# Altium footprint library CAP_SMD.PcbLib: 70 footprints (part 4 of 5)
Each footprint in its own frame and in the unit in brackets; x right, y up, seen from the top. Pads: shape width x height; smd on the part's side, far side on the other; paste and mask are expansions set on the pad; w line width, h text height; cw(c..) or ccw(c..) is an arc to the next point about the centre after c.
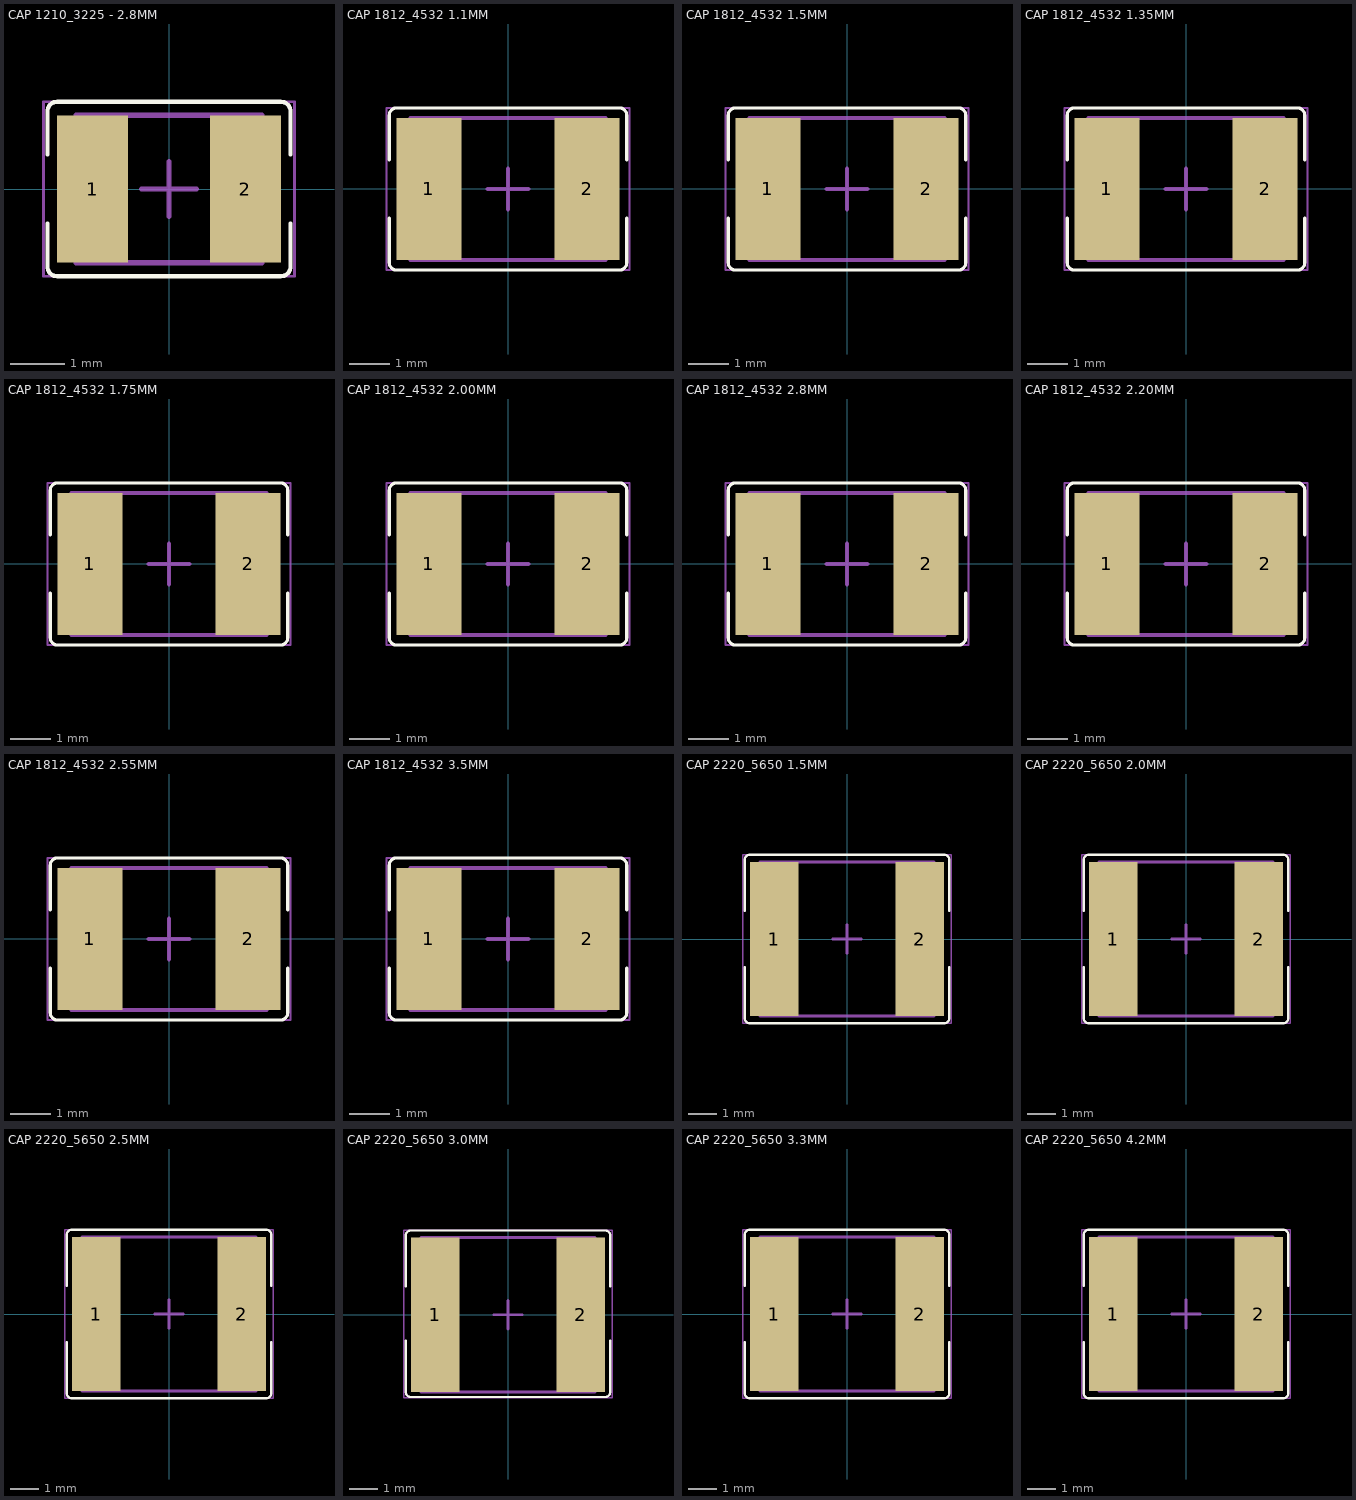
[diagram p3: the footprints below, top view; thin cyan lines are the x and y axes]

## CAP 1210_3225 - 2.8MM [mm] "Chip Capacitor, 2-Leads, Body 3.20x2.50mm, IPC Medium Density"
height 2.8
pads (2):
  rect 1.3x2.7 smd: 1(-1.4,0) 2(1.4,0)
Top Overlay:
  lines w0.076: -2.23,-0.635 -2.23,-1.42 ccw(c-2.05,-1.42) -2.05,-1.6 2.05,-1.6 ccw(c2.05,-1.42) 2.23,-1.42 2.23,-0.635 ; -2.23,0.635 -2.23,1.42 cw(c-2.05,1.42) -2.05,1.6 2.05,1.6 cw(c2.05,1.42) 2.23,1.42 2.23,0.635
Mechanical 13:
  lines w0.1: -1.7,-1.35 1.7,-1.35 1.7,1.35 -1.7,1.35 -1.7,-1.35
Mechanical 15:
  lines w0.05: -2.3,-1.6 2.3,-1.6 2.3,1.6 -2.3,1.6 -2.3,-1.6
  lines w0.1: -0.5,0 0.5,0 ; 0,-0.5 0,0.5
3D body "CAP 1210-2.8mm.STEP": height 2.8, standoff 0, extent -1.6,-1.25 1.6,1.25

## CAP 1812_4532 1.1MM [mm] "Chip Capacitor, 2-Leads, Body 4.50x3.20mm, IPC Medium Density"
height 1.1
pads (2):
  rect 1.6x3.5 smd: 1(-1.95,0) 2(1.95,0)
Top Overlay:
  lines w0.076: -2.93,-0.714 -2.93,-1.82 ccw(c-2.75,-1.82) -2.75,-2 2.75,-2 ccw(c2.75,-1.82) 2.93,-1.82 2.93,-0.714 ; -2.93,0.714 -2.93,1.82 cw(c-2.75,1.82) -2.75,2 2.75,2 cw(c2.75,1.82) 2.93,1.82 2.93,0.714
Mechanical 13:
  lines w0.1: -2.4,-1.75 -2.4,1.75 2.4,1.75 2.4,-1.75 -2.4,-1.75
Mechanical 15:
  lines w0.05: -3,-2 -3,2 3,2 3,-2 -3,-2
  lines w0.1: -0.5,0 0.5,0 ; 0,-0.5 0,0.5
3D body "CAP 1812-1.1mm.STEP": height 1.1, standoff 0, extent -2.25,-1.6 2.25,1.6

## CAP 1812_4532 1.5MM [mm] "Chip Capacitor, 2-Leads, Body 4.50x3.20mm, IPC Medium Density"
height 1.5
pads (2):
  rect 1.6x3.5 smd: 1(-1.95,0) 2(1.95,0)
Top Overlay:
  lines w0.076: -2.93,-0.714 -2.93,-1.82 ccw(c-2.75,-1.82) -2.75,-2 2.75,-2 ccw(c2.75,-1.82) 2.93,-1.82 2.93,-0.714 ; -2.93,0.714 -2.93,1.82 cw(c-2.75,1.82) -2.75,2 2.75,2 cw(c2.75,1.82) 2.93,1.82 2.93,0.714
Mechanical 13:
  lines w0.1: -2.4,-1.75 2.4,-1.75 2.4,1.75 -2.4,1.75 -2.4,-1.75
Mechanical 15:
  lines w0.05: -3,-2 3,-2 3,2 -3,2 -3,-2
  lines w0.1: -0.5,0 0.5,0 ; 0,-0.5 0,0.5
3D body "CAP 1812-1.5mm.STEP": height 1.5, standoff 0, extent -2.25,-1.6 2.25,1.6

## CAP 1812_4532 1.35MM [mm] "Chip Capacitor, 2-Leads, Body 4.50x3.20mm, IPC Medium Density"
height 1.35
pads (2):
  rect 1.6x3.5 smd: 1(-1.95,0) 2(1.95,0)
Top Overlay:
  lines w0.076: -2.93,-0.714 -2.93,-1.82 ccw(c-2.75,-1.82) -2.75,-2 2.75,-2 ccw(c2.75,-1.82) 2.93,-1.82 2.93,-0.714 ; -2.93,0.714 -2.93,1.82 cw(c-2.75,1.82) -2.75,2 2.75,2 cw(c2.75,1.82) 2.93,1.82 2.93,0.714
Mechanical 13:
  lines w0.1: -2.4,-1.75 -2.4,1.75 2.4,1.75 2.4,-1.75 -2.4,-1.75
Mechanical 15:
  lines w0.05: -3,-2 -3,2 3,2 3,-2 -3,-2
  lines w0.1: -0.5,0 0.5,0 ; 0,-0.5 0,0.5
3D body "CAP 1812-1.35mm.STEP": height 1.35, standoff 0, extent -2.25,-1.6 2.25,1.6

## CAP 1812_4532 1.75MM [mm] "Chip Capacitor, 2-Leads, Body 4.50x3.20mm, IPC Medium Density"
height 1.75
pads (2):
  rect 1.6x3.5 smd: 1(-1.95,0) 2(1.95,0)
Top Overlay:
  lines w0.076: -2.93,-0.714 -2.93,-1.82 ccw(c-2.75,-1.82) -2.75,-2 2.75,-2 ccw(c2.75,-1.82) 2.93,-1.82 2.93,-0.714 ; -2.93,0.714 -2.93,1.82 cw(c-2.75,1.82) -2.75,2 2.75,2 cw(c2.75,1.82) 2.93,1.82 2.93,0.714
Mechanical 13:
  lines w0.1: -2.4,-1.75 2.4,-1.75 2.4,1.75 -2.4,1.75 -2.4,-1.75
Mechanical 15:
  lines w0.05: -3,-2 3,-2 3,2 -3,2 -3,-2
  lines w0.1: -0.5,0 0.5,0 ; 0,-0.5 0,0.5
3D body "CAP 1812-1.75mm.STEP": height 1.75, standoff 0, extent -2.25,-1.6 2.25,1.6

## CAP 1812_4532 2.00MM [mm] "Chip Capacitor, 2-Leads, Body 4.50x3.20mm, IPC Medium Density"
height 2
pads (2):
  rect 1.6x3.5 smd: 1(-1.95,0) 2(1.95,0)
Top Overlay:
  lines w0.076: -2.93,-0.714 -2.93,-1.82 ccw(c-2.75,-1.82) -2.75,-2 2.75,-2 ccw(c2.75,-1.82) 2.93,-1.82 2.93,-0.714 ; -2.93,0.714 -2.93,1.82 cw(c-2.75,1.82) -2.75,2 2.75,2 cw(c2.75,1.82) 2.93,1.82 2.93,0.714
Mechanical 13:
  lines w0.1: -2.4,-1.75 -2.4,1.75 2.4,1.75 2.4,-1.75 -2.4,-1.75
Mechanical 15:
  lines w0.05: -3,-2 -3,2 3,2 3,-2 -3,-2
  lines w0.1: -0.5,0 0.5,0 ; 0,-0.5 0,0.5
3D body "CAP 1812-2.00mm.STEP": height 2, standoff 0, extent -2.25,-1.6 2.25,1.6

## CAP 1812_4532 2.8MM [mm] "Chip Capacitor, 2-Leads, Body 4.50x3.20mm, IPC Medium Density"
height 2.8
pads (2):
  rect 1.6x3.5 smd: 1(-1.95,0) 2(1.95,0)
Top Overlay:
  lines w0.076: -2.93,-0.714 -2.93,-1.82 ccw(c-2.75,-1.82) -2.75,-2 2.75,-2 ccw(c2.75,-1.82) 2.93,-1.82 2.93,-0.714 ; -2.93,0.714 -2.93,1.82 cw(c-2.75,1.82) -2.75,2 2.75,2 cw(c2.75,1.82) 2.93,1.82 2.93,0.714
Mechanical 13:
  lines w0.1: -2.4,-1.75 -2.4,1.75 2.4,1.75 2.4,-1.75 -2.4,-1.75
Mechanical 15:
  lines w0.05: -3,-2 -3,2 3,2 3,-2 -3,-2
  lines w0.1: -0.5,0 0.5,0 ; 0,-0.5 0,0.5
3D body "CAP 1812-2.8mm.STEP": height 2.8, standoff 0, extent -2.25,-1.6 2.25,1.6

## CAP 1812_4532 2.20MM [mm] "Chip Capacitor, 2-Leads, Body 4.50x3.20mm, IPC Medium Density"
height 2.2
pads (2):
  rect 1.6x3.5 smd: 1(-1.95,0) 2(1.95,0)
Top Overlay:
  lines w0.076: -2.93,-0.714 -2.93,-1.82 ccw(c-2.75,-1.82) -2.75,-2 2.75,-2 ccw(c2.75,-1.82) 2.93,-1.82 2.93,-0.714 ; -2.93,0.714 -2.93,1.82 cw(c-2.75,1.82) -2.75,2 2.75,2 cw(c2.75,1.82) 2.93,1.82 2.93,0.714
Mechanical 13:
  lines w0.1: -2.4,-1.75 2.4,-1.75 2.4,1.75 -2.4,1.75 -2.4,-1.75
Mechanical 15:
  lines w0.05: -3,-2 3,-2 3,2 -3,2 -3,-2
  lines w0.1: -0.5,0 0.5,0 ; 0,-0.5 0,0.5
3D body "CAP 1812-2.20mm.STEP": height 2.2, standoff 0, extent -2.25,-1.6 2.25,1.6

## CAP 1812_4532 2.55MM [mm] "Chip Capacitor, 2-Leads, Body 4.50x3.20mm, IPC Medium Density"
height 2.55
pads (2):
  rect 1.6x3.5 smd: 1(-1.95,0) 2(1.95,0)
Top Overlay:
  lines w0.076: -2.93,-0.714 -2.93,-1.82 ccw(c-2.75,-1.82) -2.75,-2 2.75,-2 ccw(c2.75,-1.82) 2.93,-1.82 2.93,-0.714 ; -2.93,0.714 -2.93,1.82 cw(c-2.75,1.82) -2.75,2 2.75,2 cw(c2.75,1.82) 2.93,1.82 2.93,0.714
Mechanical 13:
  lines w0.1: -2.4,-1.75 2.4,-1.75 2.4,1.75 -2.4,1.75 -2.4,-1.75
Mechanical 15:
  lines w0.05: -3,-2 3,-2 3,2 -3,2 -3,-2
  lines w0.1: -0.5,0 0.5,0 ; 0,-0.5 0,0.5
3D body "CAP 1812-2.55mm.STEP": height 2.55, standoff 0, extent -2.25,-1.6 2.25,1.6

## CAP 1812_4532 3.5MM [mm] "Chip Capacitor, 2-Leads, Body 4.50x3.20mm, IPC Medium Density"
height 3.5
pads (2):
  rect 1.6x3.5 smd: 1(-1.95,0) 2(1.95,0)
Top Overlay:
  lines w0.076: -2.93,-0.714 -2.93,-1.82 ccw(c-2.75,-1.82) -2.75,-2 2.75,-2 ccw(c2.75,-1.82) 2.93,-1.82 2.93,-0.714 ; -2.93,0.714 -2.93,1.82 cw(c-2.75,1.82) -2.75,2 2.75,2 cw(c2.75,1.82) 2.93,1.82 2.93,0.714
Mechanical 13:
  lines w0.1: -2.4,-1.75 2.4,-1.75 2.4,1.75 -2.4,1.75 -2.4,-1.75
Mechanical 15:
  lines w0.05: -3,-2 3,-2 3,2 -3,2 -3,-2
  lines w0.1: -0.5,0 0.5,0 ; 0,-0.5 0,0.5
3D body "CAP 1812-3.5mm.STEP": height 3.5, standoff 0, extent -2.25,-1.6 2.25,1.6

## CAP 2220_5650 1.5MM [mm] "Chip Capacitor, 2-Leads, Body 5.70x5.00mm, IPC Medium Density"
height 1.5
pads (2):
  rect 1.7x5.4 smd: 1(-2.55,0) 2(2.55,0)
Top Overlay:
  lines w0.076: -3.58,-0.983 -3.58,-2.77 ccw(c-3.4,-2.77) -3.4,-2.95 3.4,-2.95 ccw(c3.4,-2.77) 3.58,-2.77 3.58,-0.983 ; -3.58,0.983 -3.58,2.77 cw(c-3.4,2.77) -3.4,2.95 3.4,2.95 cw(c3.4,2.77) 3.58,2.77 3.58,0.983
Mechanical 13:
  lines w0.1: -3.05,-2.7 -3.05,2.7 3.05,2.7 3.05,-2.7 -3.05,-2.7
Mechanical 15:
  lines w0.05: -3.65,-2.95 -3.65,2.95 3.65,2.95 3.65,-2.95 -3.65,-2.95
  lines w0.1: -0.5,0 0.5,0 ; 0,-0.5 0,0.5
3D body "CAP 2020-1.5mm.STEP": height 1.5, standoff 0, extent -2.85,-2.5 2.85,2.5

## CAP 2220_5650 2.0MM [mm] "Chip Capacitor, 2-Leads, Body 5.70x5.00mm, IPC Medium Density"
height 2
pads (2):
  rect 1.7x5.4 smd: 1(-2.55,0) 2(2.55,0)
Top Overlay:
  lines w0.076: -3.58,-0.983 -3.58,-2.77 ccw(c-3.4,-2.77) -3.4,-2.95 3.4,-2.95 ccw(c3.4,-2.77) 3.58,-2.77 3.58,-0.983 ; -3.58,0.983 -3.58,2.77 cw(c-3.4,2.77) -3.4,2.95 3.4,2.95 cw(c3.4,2.77) 3.58,2.77 3.58,0.983
Mechanical 13:
  lines w0.1: -3.05,-2.7 -3.05,2.7 3.05,2.7 3.05,-2.7 -3.05,-2.7
Mechanical 15:
  lines w0.05: -3.65,-2.95 -3.65,2.95 3.65,2.95 3.65,-2.95 -3.65,-2.95
  lines w0.1: -0.5,0 0.5,0 ; 0,-0.5 0,0.5
3D body "CAP 2020-2.0mm.STEP": height 2, standoff 0, extent -2.85,-2.5 2.85,2.5

## CAP 2220_5650 2.5MM [mm] "Chip Capacitor, 2-Leads, Body 5.70x5.00mm, IPC Medium Density"
height 2.5
pads (2):
  rect 1.7x5.4 smd: 1(-2.55,0) 2(2.55,0)
Top Overlay:
  lines w0.076: -3.58,-0.983 -3.58,-2.77 ccw(c-3.4,-2.77) -3.4,-2.95 3.4,-2.95 ccw(c3.4,-2.77) 3.58,-2.77 3.58,-0.983 ; -3.58,0.983 -3.58,2.77 cw(c-3.4,2.77) -3.4,2.95 3.4,2.95 cw(c3.4,2.77) 3.58,2.77 3.58,0.983
Mechanical 13:
  lines w0.1: -3.05,-2.7 -3.05,2.7 3.05,2.7 3.05,-2.7 -3.05,-2.7
Mechanical 15:
  lines w0.05: -3.65,-2.95 -3.65,2.95 3.65,2.95 3.65,-2.95 -3.65,-2.95
  lines w0.1: -0.5,0 0.5,0 ; 0,-0.5 0,0.5
3D body "CAP 2020-2.5mm.STEP": height 2.5, standoff 0, extent -2.85,-2.5 2.85,2.5

## CAP 2220_5650 3.0MM [mm] "Chip Capacitor, 2-Leads, Body 5.70x5.00mm, IPC Medium Density"
height 3
pads (2):
  rect 1.7x5.4 smd: 1(-2.55,0) 2(2.55,0)
Top Overlay:
  lines w0.076: -3.58,-0.913 -3.58,-2.7 ccw(c-3.4,-2.7) -3.4,-2.88 3.4,-2.88 ccw(c3.4,-2.7) 3.58,-2.7 3.58,-0.913 ; -3.58,0.983 -3.58,2.77 cw(c-3.4,2.77) -3.4,2.95 3.4,2.95 cw(c3.4,2.77) 3.58,2.77 3.58,0.983
Mechanical 13:
  lines w0.1: -3.05,-2.7 3.05,-2.7 3.05,2.7 -3.05,2.7 -3.05,-2.7
Mechanical 15:
  lines w0.05: -3.65,-2.9 3.65,-2.9 3.65,2.95 -3.65,2.95 -3.65,-2.9
  lines w0.1: -0.5,0 0.5,0 ; 0,-0.5 0,0.5
3D body "CAP 2020-3.0mm.STEP": height 3, standoff 0, extent -2.85,-2.5 2.85,2.5

## CAP 2220_5650 3.3MM [mm] "Chip Capacitor, 2-Leads, Body 5.70x5.00mm, IPC Medium Density"
height 3.3
pads (2):
  rect 1.7x5.4 smd: 1(-2.55,0) 2(2.55,0)
Top Overlay:
  lines w0.076: -3.58,-0.983 -3.58,-2.77 ccw(c-3.4,-2.77) -3.4,-2.95 3.4,-2.95 ccw(c3.4,-2.77) 3.58,-2.77 3.58,-0.983 ; -3.58,0.983 -3.58,2.77 cw(c-3.4,2.77) -3.4,2.95 3.4,2.95 cw(c3.4,2.77) 3.58,2.77 3.58,0.983
Mechanical 13:
  lines w0.1: -3.05,-2.7 3.05,-2.7 3.05,2.7 -3.05,2.7 -3.05,-2.7
Mechanical 15:
  lines w0.05: -3.65,-2.95 3.65,-2.95 3.65,2.95 -3.65,2.95 -3.65,-2.95
  lines w0.1: -0.5,0 0.5,0 ; 0,-0.5 0,0.5
3D body "CAP 2020-3.3mm.STEP": height 3.3, standoff 0, extent -2.85,-2.5 2.85,2.5

## CAP 2220_5650 4.2MM [mm] "Chip Capacitor, 2-Leads, Body 5.70x5.00mm, IPC Medium Density"
height 4.2
pads (2):
  rect 1.7x5.4 smd: 1(-2.55,0) 2(2.55,0)
Top Overlay:
  lines w0.076: -3.58,-0.983 -3.58,-2.77 ccw(c-3.4,-2.77) -3.4,-2.95 3.4,-2.95 ccw(c3.4,-2.77) 3.58,-2.77 3.58,-0.983 ; -3.58,0.983 -3.58,2.77 cw(c-3.4,2.77) -3.4,2.95 3.4,2.95 cw(c3.4,2.77) 3.58,2.77 3.58,0.983
Mechanical 13:
  lines w0.1: -3.05,-2.7 3.05,-2.7 3.05,2.7 -3.05,2.7 -3.05,-2.7
Mechanical 15:
  lines w0.05: -3.65,-2.95 3.65,-2.95 3.65,2.95 -3.65,2.95 -3.65,-2.95
  lines w0.1: -0.5,0 0.5,0 ; 0,-0.5 0,0.5
3D body "CAP 2020-4.2mm.STEP": height 4.2, standoff 0, extent -2.85,-2.5 2.85,2.5